# EAGLE library part MOLEX_SL_10 (library molex-sl-connectors_jw)
Molex SL-Series PCB Header, 10-Pos, 0.1" (2.54mm) Centers
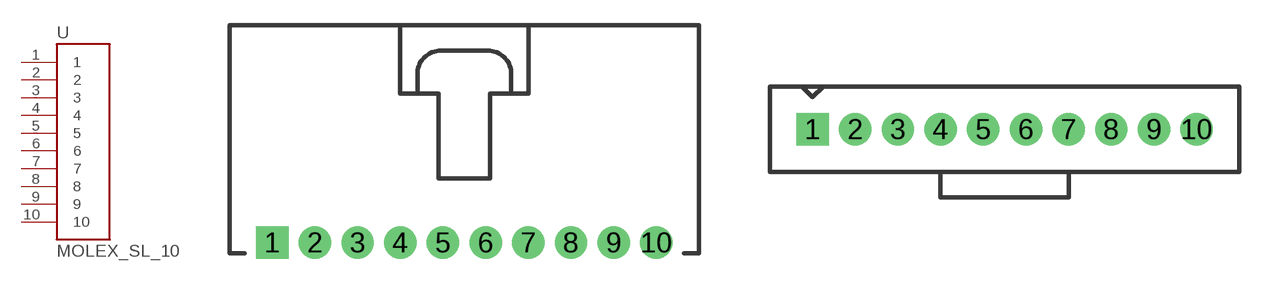
[diagram p4: symbol with the pads of SL_70553_10; footprints SL_70553_10, SL_70543_10]

Designator prefix -

## MOLEX_SL_10-70553  [SL_70553_10]
1  1
2  2
3  3
4  4
5  5
6  6
7  7
8  8
9  9
10  10

## MOLEX_SL_10-70543-74095  [SL_70543_10]
Pads as for SL_70553_10

## MOLEX_SL_10-70541-70545  [SL_70541_10]
Pads as for SL_70553_10

## MOLEX_SL_10-70551  [SL_70551_10]
Pads as for SL_70553_10

## MOLEX_SL_10-70555  [SL_70555_10]
Pads as for SL_70553_10

## MOLEX_SL_10-70634  [SL_70634_10]
Pads as for SL_70553_10

## MOLEX_SL_10-74099  [SL_74099_10]
Pads as for SL_70553_10

## MOLEX_SL_10-87898  [SL_87898_10]
Pads as for SL_70553_10

## Footprint SL_70553_10 (pad centres in mm)
Right-Angle Header w/ Latch (no pegs) 70553-0009 70553-0044 70553-0114 70553-0149 70553-5009 70553-5044
drill 1.1 pad 1.93 square: 1 -11.43,-5.08
drill 1.1 pad 1.93: 2 -8.89,-5.08; 3 -6.35,-5.08; 4 -3.81,-5.08; 5 -1.27,-5.08; 6 1.27,-5.08; 7 3.81,-5.08; 8 6.35,-5.08; 9 8.89,-5.08; 10 11.43,-5.08

## Footprint SL_70543_10 (pad centres in mm)
Vertical Header w/ Latch & Optional Compliant Pins (no pegs) Normal Pins: 70543-0009 70543-0044 70543-0079 70543-0114 70543-0149 70543-0173 70543-0208 70543-0256 70543-0280 70543-0304 Compliant Pins 74095-0010 74095-0040 74095-0070 74095-1040 74095-1070
drill 1.1 pad 1.93 square: 1 -11.43,1.27
drill 1.1 pad 1.93: 2 -8.89,1.27; 3 -6.35,1.27; 4 -3.81,1.27; 5 -1.27,1.27; 6 1.27,1.27; 7 3.81,1.27; 8 6.35,1.27; 9 8.89,1.27; 10 11.43,1.27

## Footprint SL_70541_10 (pad centres in mm)
Vertical Header w/ Latch & Pegs With Split Pegs: 70541-0009 70541-0044 70541-0079 With Tri-Pegs: 70545-0009 70545-0044 70545-0079 70545-0149 70545-0184
drill 1.1 pad 1.93 square: 1 -11.43,1.27
drill 1.1 pad 1.93: 2 -8.89,1.27; 3 -6.35,1.27; 4 -3.81,1.27; 5 -1.27,1.27; 6 1.27,1.27; 7 3.81,1.27; 8 6.35,1.27; 9 8.89,1.27; 10 11.43,1.27
hole 3.404 at -15.494,0.508
hole 3.404 at 15.494,0.508

## Footprint SL_70551_10 (pad centres in mm)
Right-Angle Header w/ Latch & Split Pegs 70551-0009 70551-0044 70551-0079
drill 1.1 pad 1.93 square: 1 -11.43,-5.08
drill 1.1 pad 1.93: 2 -8.89,-5.08; 3 -6.35,-5.08; 4 -3.81,-5.08; 5 -1.27,-5.08; 6 1.27,-5.08; 7 3.81,-5.08; 8 6.35,-5.08; 9 8.89,-5.08; 10 11.43,-5.08
hole 3.404 at -12.7,3.556
hole 3.404 at 12.7,3.556

## Footprint SL_70555_10 (pad centres in mm)
Right-Angle Header w/ Latch & Tri-Pegs 70555-0009 70555-0044 70555-0079 70555-5009
drill 1.1 pad 1.93 square: 1 -11.43,-5.08
drill 1.1 pad 1.93: 2 -8.89,-5.08; 3 -6.35,-5.08; 4 -3.81,-5.08; 5 -1.27,-5.08; 6 1.27,-5.08; 7 3.81,-5.08; 8 6.35,-5.08; 9 8.89,-5.08; 10 11.43,-5.08
hole 3.404 at -12.827,3.556
hole 3.404 at 12.827,3.556

## Footprint SL_70634_10 (pad centres in mm)
SMD Right-Angle Header w/ Latch & PCB Pegs 70634-0009 70634-0044 70634-0079 70634-0114 70634-0149 70634-0184 70634-0210
smd 1.651 x 5.334: 1 -11.43,-7.62; 2 -8.89,-7.62; 3 -6.35,-7.62; 4 -3.81,-7.62; 5 -1.27,-7.62; 6 1.27,-7.62; 7 3.81,-7.62; 8 6.35,-7.62; 9 8.89,-7.62; 10 11.43,-7.62
hole 3.404 at -12.852,3.048
hole 3.404 at 12.827,3.099

## Footprint SL_74099_10 (pad centres in mm)
SMD Vertical Header w/ Latch & PCB Pegs Package also includes Pick-N-Place Cap 74099-0610 74099-0630 74099-0650
smd 1.27 x 3.175: 1 -11.43,-2.108; 2 -8.89,2.108; 3 -6.35,-2.108; 4 -3.81,2.108; 5 -1.27,-2.108; 6 1.27,2.108; 7 3.81,-2.108; 8 6.35,2.108; 9 8.89,-2.108; 10 11.43,2.108

## Footprint SL_87898_10 (pad centres in mm)
SMD Vertical Header (no latch or pegs) Package also includes Pick-N-Place Cap Tube packaging w/o Pick-N-Place Cap: 87898-1021 87898-1022 87898-1024 87898-1025 87898-1026 Tube packaging w/ Pick-N-Place Cap: 87898-1031 87898-1032 87898-1034 87898-1035 87898-1036 Tape & Reel packaging w/ Pick-N-Place Cap: 87898-1051 87898-1052 87898-1054 87898-1055 87898-1056
smd 1.27 x 2.946: 1 -11.43,1.803; 2 -8.89,-1.803; 3 -6.35,1.803; 4 -3.81,-1.803; 5 -1.27,1.803; 6 1.27,-1.803; 7 3.81,1.803; 8 6.35,-1.803; 9 8.89,1.803; 10 11.43,-1.803